# EAGLE library part 615008185121 (library Wurth_Connectors_WR-MJ)
WR-MJ Modular Jack Horizontal Shielded Low Profile w. LED 8P8C Tab Up KIND PROPERTIES LED:yellow-green General Information Operating Temperature:-40 up to +85 °C Electrical Properties Working Voltage:-40 V (AC); 120 V (AC) Withstanding Voltage:1000V (AC) Contact Resistance:30mΩ RISO:1000 MΩ Material Properties Insulator MateriaL:PA10T Insulator Flammability Rating:UL94 V-0 Color:Black Contact Material:Copper Alloy Contact Plating:Selective Gold Contact Type:Stamped Shielding Material:Stainless Steel Packaging Properties Packaging:Tape and Reel Qty.160 <https://www.we-online.com/catalog/media/o106786v209%20Family_WR-MJ_615008185121.jpg> Details see: https://www.we-online.com/catalog/en/MJ_HORIZONTAL_SHIELDED_LOW_PROFILE_W_LED_8P8C_TAB_UP/ Updated by Yingchun,Shan 2019-11-26 2019 (C) Würth Elektronik
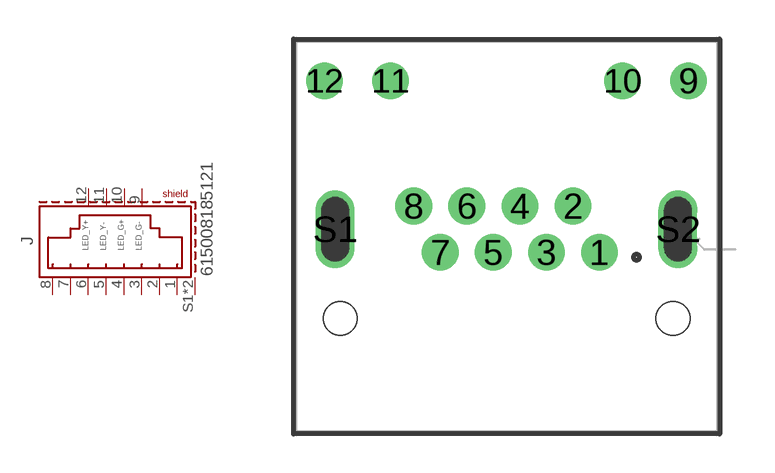
[diagram p52: symbol with the pads of 615008185121; footprint 615008185121]

Designator prefix J

## 615008185121 (DATASHEET-URL: https://www.we-online.com/redexpert/spec/615008185121?ae; LED: yellow-green; MOUNT: THT; PART-NUMBER: 615008185121; TYPE: Horizontal; VALUE: 615008185121; XPXC: 8P8C)  [615008185121]
1  1  pas
2  2  pas
3  3  pas
4  4  pas
5  5  pas
6  6  pas
7  7  pas
8  8  pas
9  G-  pas
10  G+  pas
11  Y-  pas
12  Y+  pas
S1  SHIELD  pas
S2  SHIELD  pas

## Footprint 615008185121 (pad centres in mm)
WR-MJ Modular Jack Horizontal Shielded Low Profile w. LED 8P8C Tab Up
drill 0.9: 1 3.57,-0.61; 2 2.55,1.17; 3 1.53,-0.61; 4 0.51,1.17; 5 -0.51,-0.61; 6 -1.53,1.17; 7 -2.55,-0.61; 8 -3.57,1.17; 9 7,5.99; 10 4.46,5.99; 11 -4.46,5.99; 12 -7,5.99
drill 1 long: S1 -6.59,0.28; S2 6.59,0.28
hole 1.3 at 6.4,-3.15
hole 1.3 at -6.4,-3.15